# Altium footprint library Connectors_Header_1.27mm.PcbLib: 19 footprints (part 2 of 2)
Each footprint in its own frame and in the unit in brackets; x right, y up, seen from the top. Pads: shape width x height; smd on the part's side, far side on the other; paste and mask are expansions set on the pad; w line width, h text height; cw(c..) or ccw(c..) is an arc to the next point about the centre after c.
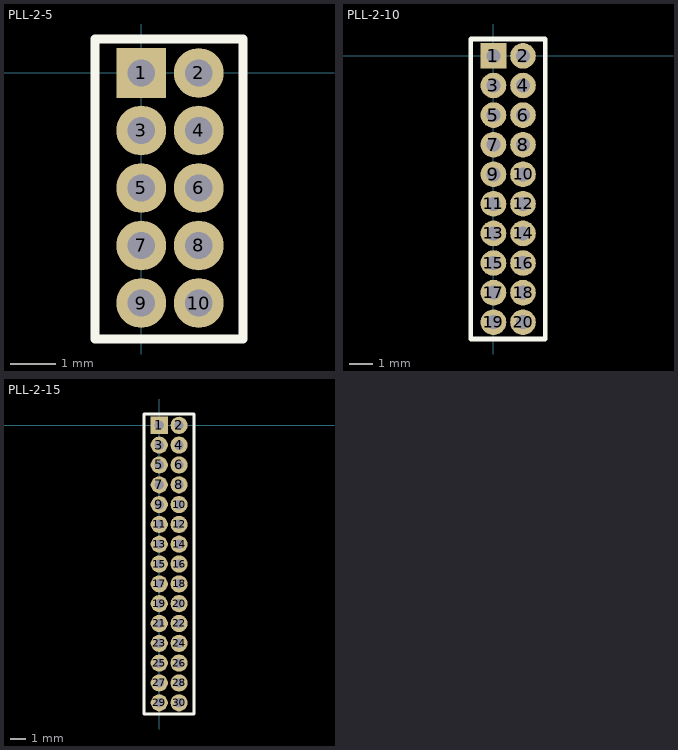
[diagram p1: the footprints below, top view; thin cyan lines are the x and y axes]

## PLL-2-5 [mm]
pads (10):
  rect 1.1x1.1 hole 0.6: 1(0,0)
  round 1.1 hole 0.6: 2(1.27,0) 3(0,-1.27) 4(1.27,-1.27) 5(0,-2.54) 6(1.27,-2.54) 7(0,-3.81) 8(1.27,-3.81) 9(0,-5.08) 10(1.27,-5.08)
Top Overlay:
  lines w0.2: -1.025,-5.875 2.25,-5.875 2.25,0.75 -1.025,0.75 -1.025,-5.875
3D body "User Library-PLLD1_27-xxPLLD1_27-10.STEP": height 4.7, standoff -2.6, extent -0.875,-5.74 2.125,0.61

## PLL-2-10 [mm]
pads (20):
  rect 1.1x1.1 hole 0.6: 1(0,0)
  round 1.1 hole 0.6: 2(1.27,0) 3(0,-1.27) 4(1.27,-1.27) 5(0,-2.54) 6(1.27,-2.54) 7(0,-3.81) 8(1.27,-3.81) 9(0,-5.08) 10(1.27,-5.08) 11(0,-6.35) 12(1.27,-6.35) 13(0,-7.62) 14(1.27,-7.62) 15(0,-8.89) 16(1.27,-8.89) 17(0,-10.16) 18(1.27,-10.16) 19(0,-11.43) 20(1.27,-11.43)
Top Overlay:
  lines w0.2: -0.975,-12.15 -0.975,0.725 2.225,0.725 2.225,-12.15 -0.975,-12.15
3D body "User Library-PLLD1_27-xxPLLD1_27-20.STEP": height 4.7, standoff -2.6, extent -0.875,-12.065 2.125,0.635

## PLL-2-15 [mm]
pads (30):
  rect 1.1x1.1 hole 0.6: 1(0,0)
  round 1.1 hole 0.6: 2(1.27,0) 3(0,-1.27) 4(1.27,-1.27) 5(0,-2.54) 6(1.27,-2.54) 7(0,-3.81) 8(1.27,-3.81) 9(0,-5.08) 10(1.27,-5.08) 11(0,-6.35) 12(1.27,-6.35) 13(0,-7.62) 14(1.27,-7.62) 15(0,-8.89) 16(1.27,-8.89) 17(0,-10.16) 18(1.27,-10.16) 19(0,-11.43) 20(1.27,-11.43) 21(0,-12.7) 22(1.27,-12.7) 23(0,-13.97) 24(1.27,-13.97) 25(0,-15.24) 26(1.27,-15.24) 27(0,-16.51) 28(1.27,-16.51) 29(0,-17.78) 30(1.27,-17.78)
Top Overlay:
  lines w0.2: -0.975,-18.5 2.225,-18.5 2.225,-12.15 2.225,0.725 -0.975,0.725 -0.975,-12.15 -0.975,-18.5
3D body "User Library-PLLD1_27-xxPLLD1_27-30.STEP": height 4.7, standoff -2.6, extent -0.875,-18.415 2.125,0.635